# Altium footprint library QFN50P400X400X90-16N.PcbLib: 1 footprints
Each footprint in its own frame and in the unit in brackets; x right, y up, seen from the top. Pads: shape width x height; smd on the part's side, far side on the other; paste and mask are expansions set on the pad; w line width, h text height; cw(c..) or ccw(c..) is an arc to the next point about the centre after c.
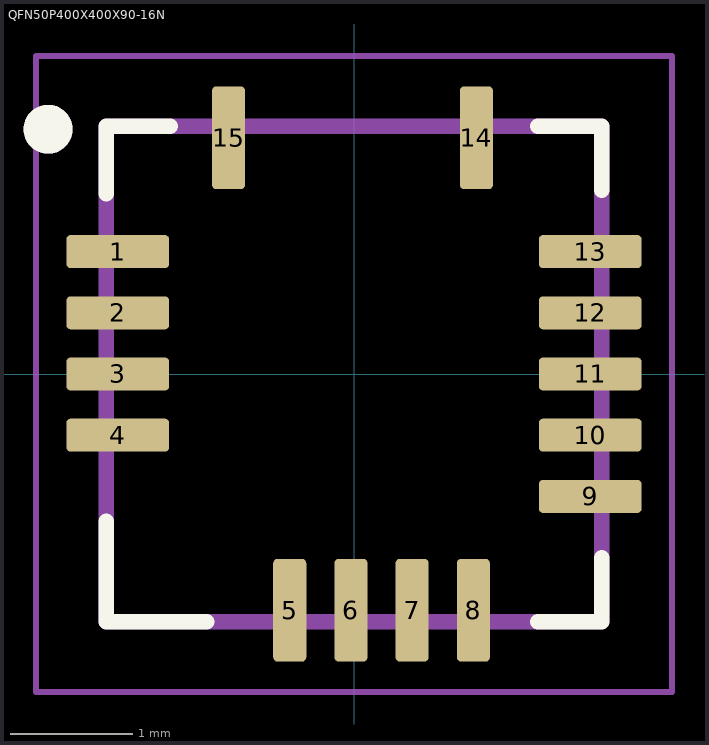
[diagram p0: the footprint, top view; thin cyan lines are the x and y axes]

## QFN50P400X400X90-16N [mm]
pads (15):
  rrect25% 0.84x0.27 smd: 1(-1.93,1) 2(-1.93,0.5) 3(-1.93,0) 4(-1.93,-0.5) 9(1.93,-1) 10(1.93,-0.5) 11(1.93,0) 12(1.93,0.5) 13(1.93,1)
  rrect25% 0.27x0.84 smd: 5(-0.525,-1.93) 6(-0.025,-1.93) 7(0.475,-1.93) 8(0.975,-1.93) 14(1,1.93) 15(-1.025,1.93)
Top Overlay:
  circle w0.2: c-2.5,2 r0.1
  lines w0.127: -2.025,-1.205 -2.025,-2.025 -1.205,-2.025 ; -2.025,1.475 -2.025,2.025 -1.5,2.025 ; 1.5,-2.025 2.025,-2.025 2.025,-1.5 ; 1.5,2.025 2.025,2.025 2.025,1.5
Assembly Top:
  circle w0.2: c-2.5,2 r0.1
  lines w0.127: -2.025,-2.025 2.025,-2.025 2.025,2.025 -2.025,2.025 -2.025,-2.025
Top Courtyard:
  lines w0.05: -2.6,-2.6 2.6,-2.6 2.6,2.6 -2.6,2.6 -2.6,-2.6